# EAGLE library part DFPLAYER-MINI-MODULE (library diy-modules-2-2)
DFPlayer Mini - MP3 player module based on YX5200 chip More details available here: https://www.dfrobot.com/wiki/index.php/DFPlayer_Mini_SKU:DFR0299 Click here to find device on ebay.com <http://www.ebay.com/sch/dfplayer+mini>
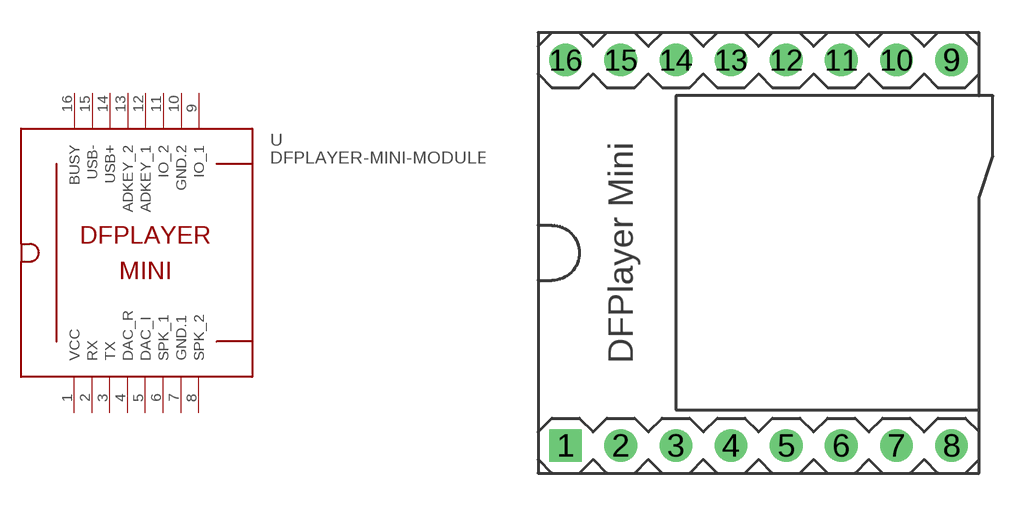
[diagram p46: symbol with the pads of DFPLAYER-MINI-MODULE; footprint DFPLAYER-MINI-MODULE]

Designator prefix -

## DFPLAYER-MINI-MODULE  [DFPLAYER-MINI-MODULE]
1  VCC  pwr
2  RX
3  TX
4  DAC_R
5  DAC_I
6  SPK_1
7  GND.1  pwr
8  SPK_2
9  IO_1
10  GND.2  pwr
11  IO_2
12  ADKEY_1
13  ADKEY_2
14  USB+
15  USB-
16  BUSY

## Footprint DFPLAYER-MINI-MODULE (pad centres in mm)
DFPlayer Mini - MP3 player module based on YX5200 chip
drill 1 square: 1 -8.89,-8.89
drill 1: 2 -6.35,-8.89; 3 -3.81,-8.89; 4 -1.27,-8.89; 5 1.27,-8.89; 6 3.81,-8.89; 7 6.35,-8.89; 8 8.89,-8.89; 9 8.89,8.89; 10 6.35,8.89; 11 3.81,8.89; 12 1.27,8.89; 13 -1.27,8.89; 14 -3.81,8.89; 15 -6.35,8.89; 16 -8.89,8.89